# Altium schematic symbol library RC0402FR-0710KL.SchLib: 1 symbol
Pins are listed as number, name and electrical type; pins without a type are passive.

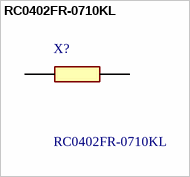
[diagram p0: symbol RC0402FR-0710KL]

## RC0402FR-0710KL
designator X?
YAGEO (PHYCOMP) - RC0402FR-0710KL. - RES, THICK FILM, 10K, 1%, 0.0625W, 0402; Manufacturer_Name: KEMET; Geometry.Height: 0.4mm; Manufacturer_Part_Number: RC0402FR-0710KL; Mouser Part Number: 603-RC0402FR-0710KL; Mouser Price/Stock: https://www.mouser.co.uk/ProductDetail/YAGEO/RC0402FR-0710KL?qs=I1mnnYJTTsxUoNwrUsQExA%3D%3D; Arrow Part Number: RC0402FR-0710KL; Arrow Price/Stock: https://www.arrow.com/en/products/rc0402fr-0710kl/yageo?region=europe; Datasheet Link: http://www.yageo.com/documents/recent/PYu-RC0402_51_RoHS_L_6_r.pdf
footprint RESC1005X40N
pins: 1, 2